# Altium schematic symbol library SCH - OPTOISOLATORS - OPTORELAY.SCHLIB: 1 symbol
Pins are listed as number, name and electrical type; pins without a type are passive.

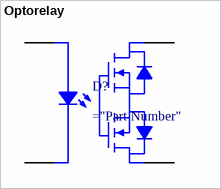
[diagram p0: symbol Optorelay]

## Optorelay
designator D?
pins: 1, 2, 3, 4